# EAGLE library part NCP186AMX330TAG (library mTrain)
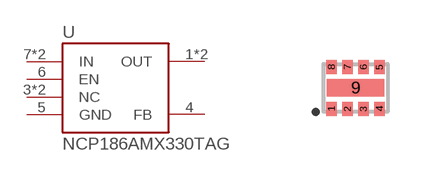
[diagram p10: symbol with the pads of XDFN8; footprint XDFN8]

Designator prefix U

## NCP186AMX330TAG  [XDFN8]
1  OUT
2  OUT
3  NC
4  FB
5  GND
6  EN
7  IN
8  IN
9  NC

## Footprint XDFN8 (pad centres in mm)
smd 0.26 x 0.35: 1 -0.6,-0.525; 2 -0.2,-0.525; 3 0.2,-0.525; 4 0.6,-0.525; 5 0.6,0.525; 6 0.2,0.525; 7 -0.2,0.525; 8 -0.6,0.525
smd 1.44 x 0.44: 9 0,0